# Altium schematic symbol library ON Semiconductor.SchLib: 3 symbols
Pins are listed as number, name and electrical type; pins without a type are passive.

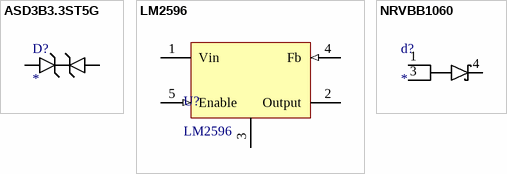
[diagram p0: symbols ASD3B3.3ST5G to NRVBB1060]

## ASD3B3.3ST5G
designator D?
3.3V ESD protection Diode
footprint SOD-923
pins: 1, 2

## LM2596
designator U?
LM2596 Switching Voltage Regulator
footprint TO-263-5 (KTT Package TO-263)
pins: 1 Vin (power) "Power Input", 2 Output (power) "Power Output", 3 GND (power) "Ground", 4 Fb (in) "Feedback", 5 Enable (in) "Power Input", 6 (power) hidden to GND "Power Input"

## NRVBB1060
designator d?
Schottky Diode 10A
footprint D²PAK 3
pins: 1, 3, 4